# Altium integrated library 4N25.IntLib: 1 symbol
Pins are listed as number, name and electrical type; pins without a type are passive.

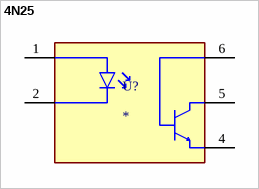
[diagram p0: symbol 4N25]

## 4N25
designator U?
Optoisolator, Analog, 6-Pin DIP, Transistor, w/Base Connection | Vishay / Small Signal & Opto Products (SSP) 4N25; MF: Vishay Semiconductor; SnapEDA_Link: https://www.snapeda.com/parts/4N25/Vishay/view-part/?ref=snap; Package: DIP-6 Everlight Electronics CO., LTD; Value: *; MP: 4N25; Check_prices: https://www.snapeda.com/parts/4N25/Vishay/view-part/?ref=eda
footprint DIP762W50P254L712H400Q6N
pins: 1 A, 2 K, 4 E, 5 C, 6 B